# EAGLE library part SVM7860 (library mita-akiba)
Melody IC Seiko Epson
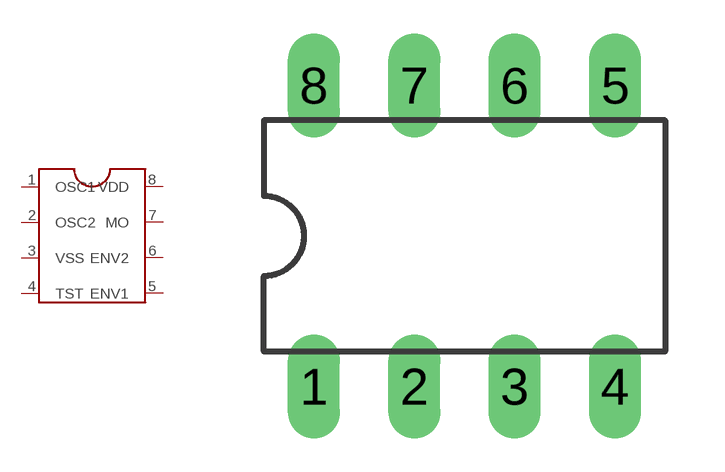
[diagram p59: symbol with the pads of DIL08; footprint DIL08]

Designator prefix -

## SVM7860DIL8  [DIL08]
1  OSC1
2  OSC2
3  VSS
4  TST
5  ENV1
6  ENV2
7  MO
8  VDD

## Footprint DIL08 (pad centres in mm)
Dual In Line Package
drill 0.813 long: 1 -3.81,-3.81; 2 -1.27,-3.81; 3 1.27,-3.81; 4 3.81,-3.81; 5 3.81,3.81; 6 1.27,3.81; 7 -1.27,3.81; 8 -3.81,3.81